# Altium footprint library 256-412.PcbLib: 1 footprints
Each footprint in its own frame and in the unit in brackets; x right, y up, seen from the top. Pads: shape width x height; smd on the part's side, far side on the other; paste and mask are expansions set on the pad; w line width, h text height; cw(c..) or ccw(c..) is an arc to the next point about the centre after c.
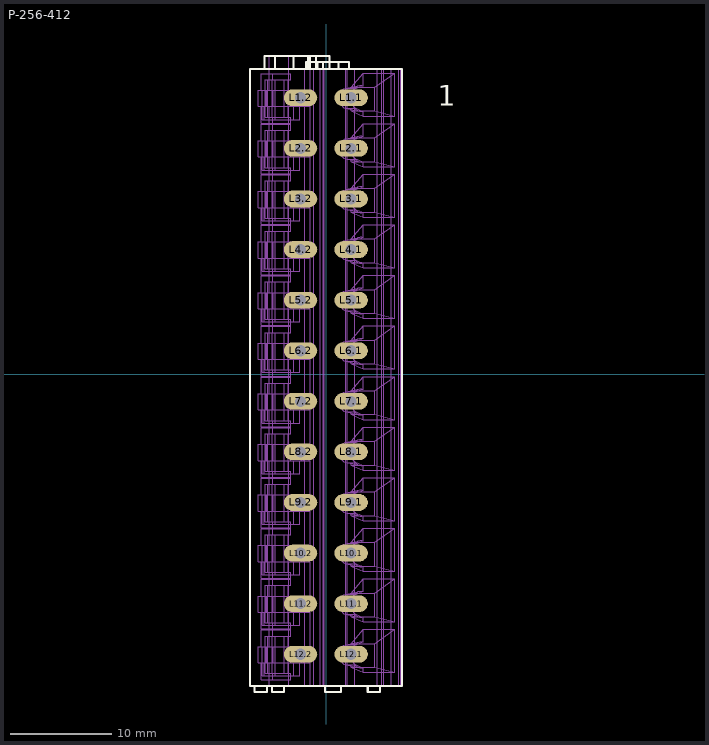
[diagram p0: the footprint, top view; thin cyan lines are the x and y axes]

## P-256-412 [mm]
pads (24):
  oval 3.3x1.65 hole 1.1: L1.1(2.485,27.3) L1.2(-2.515,27.3) L2.1(2.485,22.3) L2.2(-2.515,22.3) L3.1(2.485,17.3) L3.2(-2.515,17.3) L4.1(2.485,12.3) L4.2(-2.515,12.3) L5.1(2.485,7.3) L5.2(-2.515,7.3) L6.1(2.485,2.3) L6.2(-2.515,2.3) L7.1(2.485,-2.7) L7.2(-2.515,-2.7) L8.1(2.485,-7.7) L8.2(-2.515,-7.7) L9.1(2.485,-12.7) L9.2(-2.515,-12.7) L10.1(2.485,-17.7) L10.2(-2.515,-17.7) L11.1(2.485,-22.7) L11.2(-2.515,-22.7) L12.1(2.485,-27.7) L12.2(-2.515,-27.7)
Top Overlay:
  lines w0.2: -7.046,-30.85 -7.046,-31.45 -5.846,-31.45 -5.846,-30.85 ; -5.349,-30.85 -5.349,-31.45 -4.149,-31.45 -4.149,-30.85 ; -1.567,31.45 -1.567,30.15 ; -0.105,-30.85 -0.105,-31.45 1.495,-31.45 1.495,-30.85 ; 4.126,-30.85 4.126,-31.45 5.326,-31.45 5.326,-30.85 ; -6.093,30.15 -6.093,31.45 -5.032,31.45 ; -6.093,30.15 -7.515,30.15 -7.515,-30.85 7.515,-30.85 7.515,30.15 2.295,30.15 ; -6.093,30.15 -5.032,30.15 ; -5.032,30.15 -5.032,31.45 ; -5.032,30.15 -3.194,30.15 ; -5.032,31.45 -3.194,31.45 ; -3.194,30.15 -3.194,31.45 ; -3.194,30.15 -1.992,30.15 ; -3.194,31.45 -1.774,31.45 ; -1.992,30.15 -1.992,30.85 -0.86,30.85 ; -1.992,30.15 -1.774,30.15 ; -1.774,30.15 -1.774,31.45 ; -1.774,30.15 -1.567,30.15 ; -1.774,31.45 -1.002,31.45 ; -1.567,30.15 -1.002,30.15 ; -1.002,30.15 -1.002,31.45 ; -1.002,30.15 -0.86,30.15 ; -1.002,31.45 0.342,31.45 0.342,30.15 ; -0.86,30.15 -0.86,30.85 ; -0.86,30.15 -0.306,30.15 ; -0.86,30.85 -0.306,30.85 ; -0.306,30.15 -0.306,30.85 ; -0.306,30.15 0.342,30.15 ; -0.306,30.85 1.22,30.85 ; 0.342,30.15 1.22,30.15 ; 1.22,30.15 1.22,30.85 ; 1.22,30.15 2.295,30.15 ; 1.22,30.85 2.295,30.85 2.295,30.15
  text "1" at 11.045,26.528 h2
Mechanical 13:
  drawing of 3052 lines, arcs and shapes, not listed
3D body "step_temp.STEP": height 18.2, standoff -4, extent -7.5,-31.45 7.499,31.45